# Altium schematic symbol library Schlib1.SchLib: 1 symbol
Pins are listed as number, name and electrical type; pins without a type are passive.

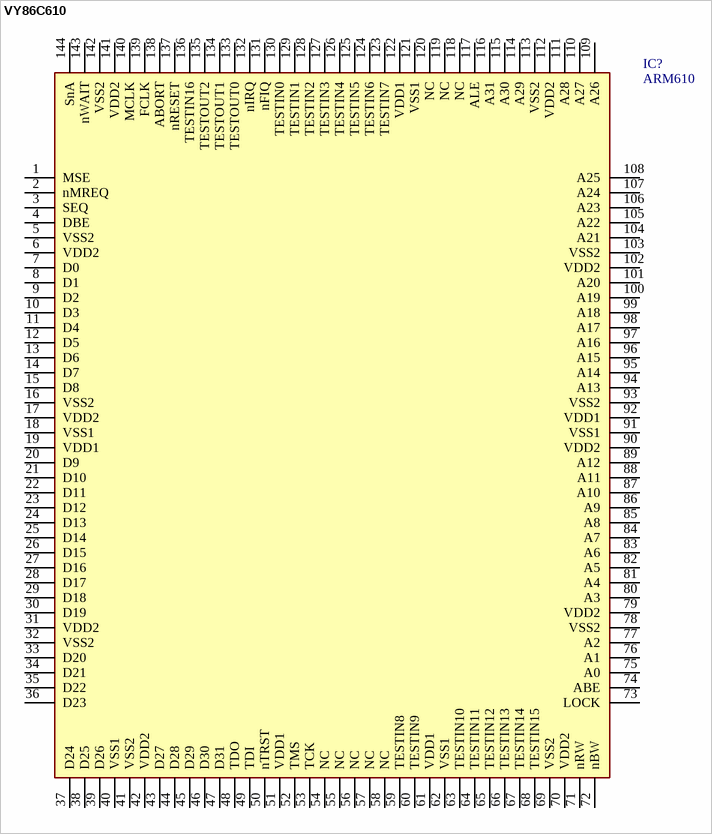
[diagram p0: symbol VY86C610]

## VY86C610
designator IC?, comment ARM610
Manufacturer_Name: VLSI; Manufacturer_Part_Number: VY86C610C; Height: 1.6mm
footprint TQFP144
pins: 1 MSE, 2 nMREQ, 3 SEQ, 4 DBE, 5 VSS2, 6 VDD2, 7 D0, 8 D1, 9 D2, 10 D3, 11 D4, 12 D5, 13 D6, 14 D7, 15 D8, 16 VSS2, 17 VDD2, 18 VSS1, 19 VDD1, 20 D9, 21 D10, 22 D11, 23 D12, 24 D13, 25 D14, 26 D15, 27 D16, 28 D17, 29 D18, 30 D19, 31 VDD2, 32 VSS2, 33 D20, 34 D21, 35 D22, 36 D23, 37 D24, 38 D25, 39 D26, 40 VSS1, 41 VSS2, 42 VDD2, 43 D27, 44 D28, 45 D29, 46 D30, 47 D31, 48 TDO, 49 TDI, 50 nTRST, 51 VDD1, 52 TMS, 53 TCK, 54 NC, 55 NC, 56 NC, 57 NC, 58 NC, 59 TESTIN8, 60 TESTIN9, 61 VDD1, 62 VSS1, 63 TESTIN10, 64 TESTIN11, 65 TESTIN12, 66 TESTIN13, 67 TESTIN14, 68 TESTIN15, 69 VSS2, 70 VDD2, 71 nRW, 72 nBW, 73 LOCK, 74 ABE, 75 A0, 76 A1, 77 A2, 78 VSS2, 79 VDD2, 80 A3, 81 A4, 82 A5, 83 A6, 84 A7, 85 A8, 86 A9, 87 A10, 88 A11, 89 A12, 90 VDD2, 91 VSS1, 92 VDD1, 93 VSS2, 94 A13, 95 A14, 96 A15, 97 A16, 98 A17, 99 A18, 100 A19, 101 A20, 102 VDD2, 103 VSS2, 104 A21, 105 A22, 106 A23, 107 A24, 108 A25, 109 A26, 110 A27, 111 A28, 112 VDD2, 113 VSS2, 114 A29, 115 A30, 116 A31, 117 ALE, 118 NC, 119 NC, 120 NC, 121 VSS1, 122 VDD1, 123 TESTIN7, 124 TESTIN6, 125 TESTIN5, 126 TESTIN4, 127 TESTIN3, 128 TESTIN2, 129 TESTIN1, 130 TESTIN0, 131 nFIQ, 132 nIRQ, 133 TESTOUT0, 134 TESTOUT1, 135 TESTOUT2, 136 TESTIN16, 137 nRESET, 138 ABORT, 139 FCLK, 140 MCLK, 141 VDD2, 142 VSS2, 143 nWAIT, 144 SnA